# EAGLE library part GENERIC-1X8 (library p.peter-connectors)
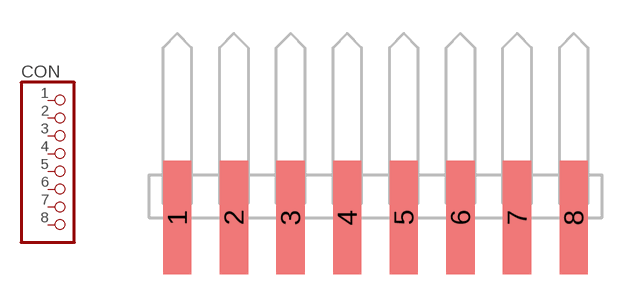
[diagram p17: symbol with the pads of PINHEADER-100MIL-1X8-SMD; footprint PINHEADER-100MIL-1X8-SMD]

Designator prefix CON

## GENERIC-1X8  [PINHEADER-100MIL-1X8-SMD]
1  1  pas
2  2  pas
3  3  pas
4  4  pas
5  5  pas
6  6  pas
7  7  pas
8  8  pas

## Footprint PINHEADER-100MIL-1X8-SMD (pad centres in mm)
smd 1.27 x 5.08: 1 -8.89,0; 2 -6.35,0; 3 -3.81,0; 4 -1.27,0; 5 1.27,0; 6 3.81,0; 7 6.35,0; 8 8.89,0